# EAGLE library part DSP56F807 (library micro-motorola)
16-bit Digital Signal Processor
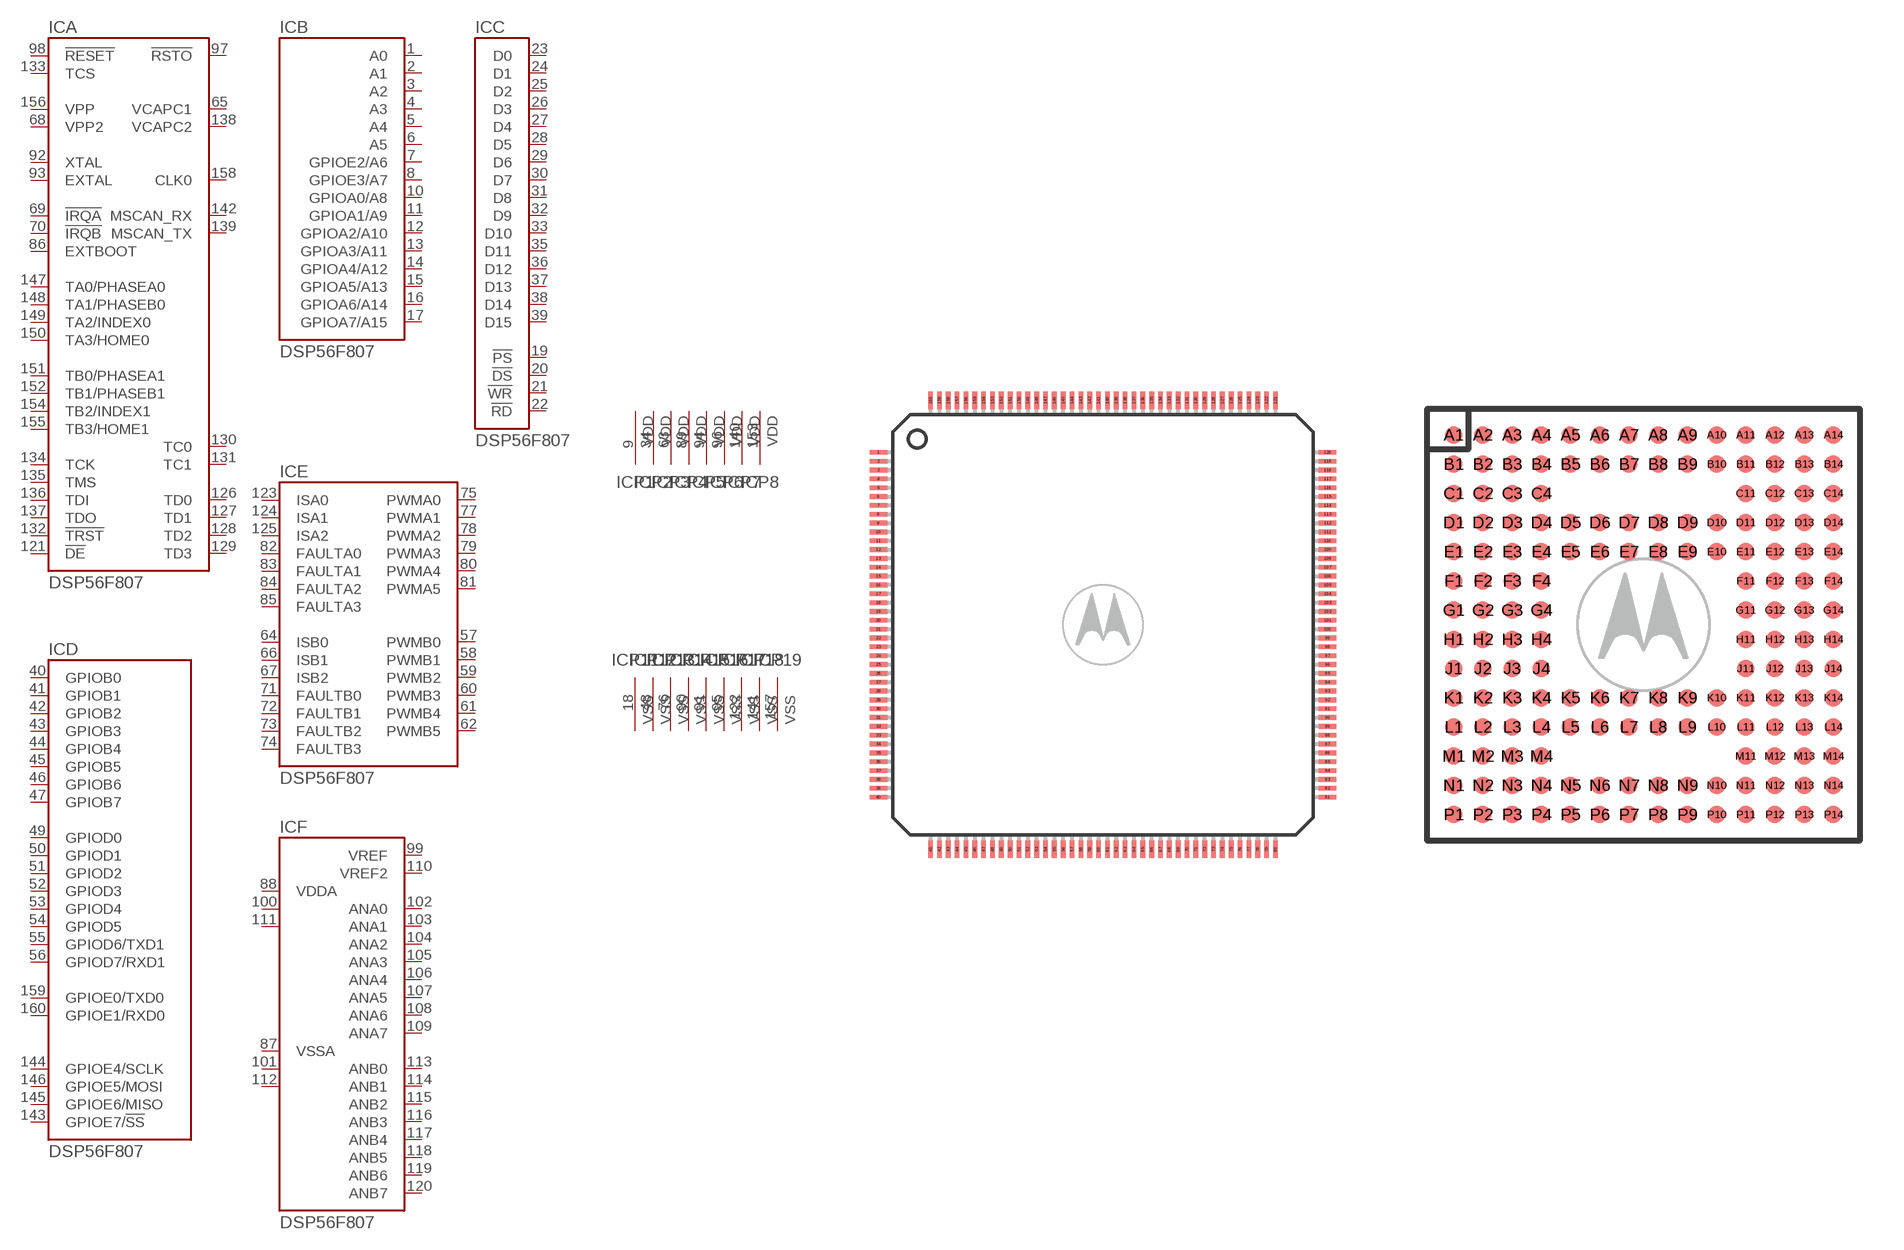
[diagram p71: symbol with the pads of LQFP160; footprints LQFP160, MAPBGA160]

Designator prefix IC; gates A=DSP56F807-CTRL B=DSP56F807-ADR C=DSP56F807-DATA E=DSP56F807-PWM F=DSP56F807-ANA P1=VDD P2=VDD P3=VDD P4=VDD P5=VDD P6=VDD P11=VSS P12=VSS P13=VSS P14=VSS P15=VSS P16=VSS P17=VSS P7=VDD P18=VSS D=DSP56F807-PORT P8=VDD P19=VSS

## DSP56F807PY80 (MF: MOTOROLA; MPN: DSP56F807PY80; OC_FARNELL: 1691514; OC_NEWARK: 74C6821)  [LQFP160]
1  B:A0  out
2  B:A1  out
3  B:A2  out
4  B:A3  out
5  B:A4  out
6  B:A5  out
7  B:GPIOE2/A6
8  B:GPIOE3/A7
9  P1:VDD  pwr
10  B:GPIOA0/A8
11  B:GPIOA1/A9
12  B:GPIOA2/A10
13  B:GPIOA3/A11
14  B:GPIOA4/A12
15  B:GPIOA5/A13
16  B:GPIOA6/A14
17  B:GPIOA7/A15
18  P11:VSS  pwr
19  C:!PS  out
20  C:!DS  out
21  C:!WR  out
22  C:!RD  out
23  C:D0
24  C:D1
25  C:D2
26  C:D3
27  C:D4
28  C:D5
29  C:D6
30  C:D7
31  C:D8
32  C:D9
33  C:D10
34  P2:VDD  pwr
35  C:D11
36  C:D12
37  C:D13
38  C:D14
39  C:D15
40  D:GPIOB0
41  D:GPIOB1
42  D:GPIOB2
43  D:GPIOB3
44  D:GPIOB4
45  D:GPIOB5
46  D:GPIOB6
47  D:GPIOB7
48  P12:VSS  pwr
49  D:GPIOD0
50  D:GPIOD1
51  D:GPIOD2
52  D:GPIOD3
53  D:GPIOD4
54  D:GPIOD5
55  D:GPIOD6/TXD1
56  D:GPIOD7/RXD1
57  E:PWMB0  out
58  E:PWMB1  out
59  E:PWMB2  out
60  E:PWMB3  out
61  E:PWMB4  out
62  E:PWMB5  out
63  P3:VDD  pwr
64  E:ISB0  in
65  A:VCAPC1  out
66  E:ISB1  in
67  E:ISB2  in
68  A:VPP2
69  A:!IRQA  in
70  A:!IRQB  in
71  E:FAULTB0  in
72  E:FAULTB1  in
73  E:FAULTB2  in
74  E:FAULTB3  in
75  E:PWMA0  out
76  P13:VSS  pwr
77  E:PWMA1  out
78  E:PWMA2  out
79  E:PWMA3  out
80  E:PWMA4  out
81  E:PWMA5  out
82  E:FAULTA0  in
83  E:FAULTA1  in
84  E:FAULTA2  in
85  E:FAULTA3  in
86  A:EXTBOOT  in
87  F:VSSA  pwr
88  F:VDDA  pwr
89  P4:VDD  pwr
90  P14:VSS  pwr
91  P15:VSS  pwr
92  A:XTAL
93  A:EXTAL  in
94  P5:VDD  pwr
95  P16:VSS  pwr
96  P6:VDD  pwr
97  A:!RSTO  out
98  A:!RESET  in
99  F:VREF  in
100  F:VDDA  pwr
101  F:VSSA  pwr
102  F:ANA0  in
103  F:ANA1  in
104  F:ANA2  in
105  F:ANA3  in
106  F:ANA4  in
107  F:ANA5  in
108  F:ANA6  in
109  F:ANA7  in
110  F:VREF2  in
111  F:VDDA  pwr
112  F:VSSA  pwr
113  F:ANB0  in
114  F:ANB1  in
115  F:ANB2  in
116  F:ANB3  in
117  F:ANB4  in
118  F:ANB5  in
119  F:ANB6  in
120  F:ANB7  in
121  A:!DE  out
122  P17:VSS  pwr
123  E:ISA0  in
124  E:ISA1  in
125  E:ISA2  in
126  A:TD0
127  A:TD1
128  A:TD2
129  A:TD3
130  A:TC0
131  A:TC1
132  A:!TRST  in
133  A:TCS  pas
134  A:TCK  in
135  A:TMS  in
136  A:TDI  in
137  A:TDO  out
138  A:VCAPC2  out
139  A:MSCAN_TX  out
140  P7:VDD  pwr
141  P18:VSS  pwr
142  A:MSCAN_RX  in
143  D:GPIOE7/!SS
144  D:GPIOE4/SCLK
145  D:GPIOE6/MISO
146  D:GPIOE5/MOSI
147  A:TA0/PHASEA0
148  A:TA1/PHASEB0
149  A:TA2/INDEX0
150  A:TA3/HOME0
151  A:TB0/PHASEA1
152  A:TB1/PHASEB1
153  P8:VDD  pwr
154  A:TB2/INDEX1
155  A:TB3/HOME1
156  A:VPP
157  P19:VSS  pwr
158  A:CLK0  out
159  D:GPIOE0/TXD0
160  D:GPIOE1/RXD0

## DSP56F807VF80 (OC_FARNELL: 1691535; OC_NEWARK: unknown)  [MAPBGA160]
A1  D:GPIOE1/RXD0
A2  A:CLK0  out
A3  P19:VSS  pwr
A4  P8:VDD  pwr
A5  A:TA3/HOME0
A6  D:GPIOE5/MOSI
A7  D:GPIOE7/!SS
A8  A:VCAPC2  out
A9  A:TMS  in
A10  A:TC0
A11  A:TD1
A12  E:ISA2  in
A13  E:ISA1  in
A14  P16:VSS  pwr
B1  B:A4  out
B2  B:A1  out
B3  D:GPIOE0/TXD0
B4  A:VPP
B5  A:TB1/PHASEB1
B6  A:TA2/INDEX0
B7  D:GPIOE6/MISO
B8  A:TDO  out
B9  A:TCS  pas
B10  A:TD3
B11  A:TD0
B12  E:ISA0  in
B13  A:!DE  out
B14  F:ANB6  in
C1  B:GPIOE2/A6
C2  B:A3  out
C3  B:A0  out
C4  A:TB3/HOME1
C11  F:ANB5  in
C12  F:ANB7  in
C13  F:ANB4  in
C14  F:ANB3  in
D1  B:GPIOE3/A7
D2  B:A5  out
D3  B:A2  out
D4  A:TB2/INDEX1
D5  A:TA1/PHASEB0
D6  A:MSCAN_RX  in
D7  P6:VDD  pwr
D8  A:TDI  in
D9  A:!TRST  in
D10  A:TD2
D11  F:ANB0  in
D12  F:ANB1  in
D13  F:ANB2  in
D14  F:VSSA  pwr
E1  B:GPIOA1/A9
E2  B:GPIOA0/A8
E3  P1:VDD  pwr
E4  A:TB0/PHASEA1
E5  D:GPIOE4/SCLK
E6  A:TA0/PHASEA0
E7  P17:VSS  pwr
E8  A:MSCAN_TX  out
E9  A:TCK  in
E10  A:TC1
E11  F:ANA5  in
E12  F:ANA7  in
E13  F:VDDA  pwr
E14  F:VREF2  in
F1  B:GPIOA4/A12
F2  B:GPIOA3/A11
F3  B:GPIOA2/A10
F4  P11:VSS  pwr
F11  F:ANA1  in
F12  F:ANA3  in
F13  F:ANA6  in
F14  F:ANA4  in
G1  B:GPIOA7/A15
G2  B:GPIOA6/A14
G3  B:GPIOA5/A13
G4  C:!PS  out
G11  F:VSSA  pwr
G12  F:VDDA  pwr
G13  F:ANA2  in
G14  F:ANA0  in
H1  C:D1
H2  C:D2
H3  C:D0
H4  C:!DS  out
H11  F:VREF  in
H12  A:!RSTO  out
H13  P5:VDD  pwr
H14  A:!RESET  in
J1  C:D4
J2  C:D5
J3  C:D3
J4  C:!WR  out
J11  P15:VSS  pwr
J12  A:EXTAL  in
J13  A:XTAL
J14  P4:VDD  pwr
K1  C:D7
K2  C:D9
K3  C:D6
K4  C:!RD  out
K5  D:GPIOD2
K6  D:GPIOD5
K7  E:PWMB2  out
K8  E:PWMB4  out
K9  E:ISB1  in
K10  A:VCAPC1  out
K11  P13:VSS  pwr
K12  F:VSSA  pwr
K13  F:VDDA  pwr
K14  P14:VSS  pwr
L1  C:D8
L2  C:D11
L3  C:D10
L4  D:GPIOB0
L5  P12:VSS  pwr
L6  D:GPIOD4
L7  E:PWMB0  out
L8  E:PWMB3  out
L9  P2:VDD  pwr
L10  A:VPP2
L11  E:FAULTB2  in
L12  E:FAULTA1  in
L13  E:FAULTA3  in
L14  P3:VDD  pwr
M1  P7:VDD  pwr
M2  C:D13
M3  C:D15
M4  D:GPIOB7
M11  E:FAULTB3  in
M12  E:PWMA4  out
M13  E:FAULTA0  in
M14  A:EXTBOOT  in
N1  C:D12
N2  C:D14
N3  D:GPIOB2
N4  D:GPIOB5
N5  D:GPIOD0
N6  D:GPIOD3
N7  D:GPIOD7/RXD1
N8  E:ISB0  in
N9  A:!IRQA  in
N10  E:FAULTB1  in
N11  P18:VSS  pwr
N12  E:PWMA2  out
N13  E:PWMA3  out
N14  E:FAULTA2  in
P1  D:GPIOB1
P2  D:GPIOB3
P3  D:GPIOB4
P4  D:GPIOB6
P5  D:GPIOD1
P6  D:GPIOD6/TXD1
P7  E:PWMB1  out
P8  E:PWMB5  out
P9  E:ISB2  in
P10  A:!IRQB  in
P11  E:FAULTB0  in
P12  E:PWMA0  out
P13  E:PWMA1  out
P14  E:PWMA5  out

## Footprint LQFP160 (pad centres in mm)
Low-Profile Quad Flat Pack LQFP 160 CASE 1259-01
smd 1 x 0.27: 1 -12.7,9.75; 2 -12.7,9.25; 3 -12.7,8.75; 4 -12.7,8.25; 5 -12.7,7.75; 6 -12.7,7.25; 7 -12.7,6.75; 8 -12.7,6.25; 9 -12.7,5.75; 10 -12.7,5.25; 11 -12.7,4.75; 12 -12.7,4.25; 13 -12.7,3.75; 14 -12.7,3.25; 15 -12.7,2.75; 16 -12.7,2.25; 17 -12.7,1.75; 18 -12.7,1.25; 19 -12.7,0.75; 20 -12.7,0.25; 21 -12.7,-0.25; 22 -12.7,-0.75; 23 -12.7,-1.25; 24 -12.7,-1.75; 25 -12.7,-2.25; 26 -12.7,-2.75; 27 -12.7,-3.25; 28 -12.7,-3.75; 29 -12.7,-4.25; 30 -12.7,-4.75; 31 -12.7,-5.25; 32 -12.7,-5.75; 33 -12.7,-6.25; 34 -12.7,-6.75; 35 -12.7,-7.25; 36 -12.7,-7.75; 37 -12.7,-8.25; 38 -12.7,-8.75; 39 -12.7,-9.25; 40 -12.7,-9.75; 81 12.7,-9.75; 82 12.7,-9.25; 83 12.7,-8.75; 84 12.7,-8.25; 85 12.7,-7.75; 86 12.7,-7.25; 87 12.7,-6.75; 88 12.7,-6.25; 89 12.7,-5.75; 90 12.7,-5.25; 91 12.7,-4.75; 92 12.7,-4.25; 93 12.7,-3.75; 94 12.7,-3.25; 95 12.7,-2.75; 96 12.7,-2.25; 97 12.7,-1.75; 98 12.7,-1.25; 99 12.7,-0.75; 100 12.7,-0.25; 101 12.7,0.25; 102 12.7,0.75; 103 12.7,1.25; 104 12.7,1.75; 105 12.7,2.25; 106 12.7,2.75; 107 12.7,3.25; 108 12.7,3.75; 109 12.7,4.25; 110 12.7,4.75; 111 12.7,5.25; 112 12.7,5.75; 113 12.7,6.25; 114 12.7,6.75; 115 12.7,7.25; 116 12.7,7.75; 117 12.7,8.25; 118 12.7,8.75; 119 12.7,9.25; 120 12.7,9.75
smd 0.27 x 1: 41 -9.75,-12.7; 42 -9.25,-12.7; 43 -8.75,-12.7; 44 -8.25,-12.7; 45 -7.75,-12.7; 46 -7.25,-12.7; 47 -6.75,-12.7; 48 -6.25,-12.7; 49 -5.75,-12.7; 50 -5.25,-12.7; 51 -4.75,-12.7; 52 -4.25,-12.7; 53 -3.75,-12.7; 54 -3.25,-12.7; 55 -2.75,-12.7; 56 -2.25,-12.7; 57 -1.75,-12.7; 58 -1.25,-12.7; 59 -0.75,-12.7; 60 -0.25,-12.7; 61 0.25,-12.7; 62 0.75,-12.7; 63 1.25,-12.7; 64 1.75,-12.7; 65 2.25,-12.7; 66 2.75,-12.7; 67 3.25,-12.7; 68 3.75,-12.7; 69 4.25,-12.7; 70 4.75,-12.7; 71 5.25,-12.7; 72 5.75,-12.7; 73 6.25,-12.7; 74 6.75,-12.7; 75 7.25,-12.7; 76 7.75,-12.7; 77 8.25,-12.7; 78 8.75,-12.7; 79 9.25,-12.7; 80 9.75,-12.7; 121 9.75,12.7; 122 9.25,12.7; 123 8.75,12.7; 124 8.25,12.7; 125 7.75,12.7; 126 7.25,12.7; 127 6.75,12.7; 128 6.25,12.7; 129 5.75,12.7; 130 5.25,12.7; 131 4.75,12.7; 132 4.25,12.7; 133 3.75,12.7; 134 3.25,12.7; 135 2.75,12.7; 136 2.25,12.7; 137 1.75,12.7; 138 1.25,12.7; 139 0.75,12.7; 140 0.25,12.7; 141 -0.25,12.7; 142 -0.75,12.7; 143 -1.25,12.7; 144 -1.75,12.7; 145 -2.25,12.7; 146 -2.75,12.7; 147 -3.25,12.7; 148 -3.75,12.7; 149 -4.25,12.7; 150 -4.75,12.7; 151 -5.25,12.7; 152 -5.75,12.7; 153 -6.25,12.7; 154 -6.75,12.7; 155 -7.25,12.7; 156 -7.75,12.7; 157 -8.25,12.7; 158 -8.75,12.7; 159 -9.25,12.7; 160 -9.75,12.7

## Footprint MAPBGA160 (pad centres in mm)
Mold Array Process Ball Grid Array MAPBGA 160 CASE 1268-01
smd 0.6 x 0.6: A1 -6.5,6.5; A2 -5.5,6.5; A3 -4.5,6.5; A4 -3.5,6.5; A5 -2.5,6.5; A6 -1.5,6.5; A7 -0.5,6.5; A8 0.5,6.5; A9 1.5,6.5; A10 2.5,6.5; A11 3.5,6.5; A12 4.5,6.5; A13 5.5,6.5; A14 6.5,6.5; B1 -6.5,5.5; B2 -5.5,5.5; B3 -4.5,5.5; B4 -3.5,5.5; B5 -2.5,5.5; B6 -1.5,5.5; B7 -0.5,5.5; B8 0.5,5.5; B9 1.5,5.5; B10 2.5,5.5; B11 3.5,5.5; B12 4.5,5.5; B13 5.5,5.5; B14 6.5,5.5; C1 -6.5,4.5; C2 -5.5,4.5; C3 -4.5,4.5; C4 -3.5,4.5; C11 3.5,4.5; C12 4.5,4.5; C13 5.5,4.5; C14 6.5,4.5; D1 -6.5,3.5; D2 -5.5,3.5; D3 -4.5,3.5; D4 -3.5,3.5; D5 -2.5,3.5; D6 -1.5,3.5; D7 -0.5,3.5; D8 0.5,3.5; D9 1.5,3.5; D10 2.5,3.5; D11 3.5,3.5; D12 4.5,3.5; D13 5.5,3.5; D14 6.5,3.5; E1 -6.5,2.5; E2 -5.5,2.5; E3 -4.5,2.5; E4 -3.5,2.5; E5 -2.5,2.5; E6 -1.5,2.5; E7 -0.5,2.5; E8 0.5,2.5; E9 1.5,2.5; E10 2.5,2.5; E11 3.5,2.5; E12 4.5,2.5; E13 5.5,2.5; E14 6.5,2.5; F1 -6.5,1.5; F2 -5.5,1.5; F3 -4.5,1.5; F4 -3.5,1.5; F11 3.5,1.5; F12 4.5,1.5; F13 5.5,1.5; F14 6.5,1.5; G1 -6.5,0.5; G2 -5.5,0.5; G3 -4.5,0.5; G4 -3.5,0.5; G11 3.5,0.5; G12 4.5,0.5; G13 5.5,0.5; G14 6.5,0.5; H1 -6.5,-0.5; H2 -5.5,-0.5; H3 -4.5,-0.5; H4 -3.5,-0.5; H11 3.5,-0.5; H12 4.5,-0.5; H13 5.5,-0.5; H14 6.5,-0.5; J1 -6.5,-1.5; J2 -5.5,-1.5; J3 -4.5,-1.5; J4 -3.5,-1.5; J11 3.5,-1.5; J12 4.5,-1.5; J13 5.5,-1.5; J14 6.5,-1.5; K1 -6.5,-2.5; K2 -5.5,-2.5; K3 -4.5,-2.5; K4 -3.5,-2.5; K5 -2.5,-2.5; K6 -1.5,-2.5; K7 -0.5,-2.5; K8 0.5,-2.5; K9 1.5,-2.5; K10 2.5,-2.5; K11 3.5,-2.5; K12 4.5,-2.5; K13 5.5,-2.5; K14 6.5,-2.5; L1 -6.5,-3.5; L2 -5.5,-3.5; L3 -4.5,-3.5; L4 -3.5,-3.5; L5 -2.5,-3.5; L6 -1.5,-3.5; L7 -0.5,-3.5; L8 0.5,-3.5; L9 1.5,-3.5; L10 2.5,-3.5; L11 3.5,-3.5; L12 4.5,-3.5; L13 5.5,-3.5; L14 6.5,-3.5; M1 -6.5,-4.5; M2 -5.5,-4.5; M3 -4.5,-4.5; M4 -3.5,-4.5; M11 3.5,-4.5; M12 4.5,-4.5; M13 5.5,-4.5; M14 6.5,-4.5; N1 -6.5,-5.5; N2 -5.5,-5.5; N3 -4.5,-5.5; N4 -3.5,-5.5; N5 -2.5,-5.5; N6 -1.5,-5.5; N7 -0.5,-5.5; N8 0.5,-5.5; N9 1.5,-5.5; N10 2.5,-5.5; N11 3.5,-5.5; N12 4.5,-5.5; N13 5.5,-5.5; N14 6.5,-5.5; P1 -6.5,-6.5; P2 -5.5,-6.5; P3 -4.5,-6.5; P4 -3.5,-6.5; P5 -2.5,-6.5; P6 -1.5,-6.5; P7 -0.5,-6.5; P8 0.5,-6.5; P9 1.5,-6.5; P10 2.5,-6.5; P11 3.5,-6.5; P12 4.5,-6.5; P13 5.5,-6.5; P14 6.5,-6.5